# Altium schematic symbol library SMF05CT1G.SchLib: 1 symbol
Pins are listed as number, name and electrical type; pins without a type are passive.

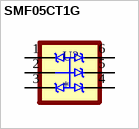
[diagram p0: symbol SMF05CT1G]

## SMF05CT1G
designator U?
12.5V Clamp 8A (8/20Âµs) Ipp Tvs Diode Surface Mount SC-88/SC70-6/SOT-363; MF: ON Semiconductor; MP: SMF05CT1G; SnapEDA_Link: https://www.snapeda.com/parts/SMF05CT1G/Onsemi/view-part/?ref=snap; Package: SC-88-6 ON Semiconductor; Value: *; Check_prices: https://www.snapeda.com/parts/SMF05CT1G/Onsemi/view-part/?ref=eda
footprint SOT65P210X110-6N
pins: 1 C1, 2 A, 3 C2, 4 C3, 5 C4, 6 C5